# Altium footprint library Footprint.PcbLib: 1 footprints
Each footprint in its own frame and in the unit in brackets; x right, y up, seen from the top. Pads: shape width x height; smd on the part's side, far side on the other; paste and mask are expansions set on the pad; w line width, h text height; cw(c..) or ccw(c..) is an arc to the next point about the centre after c.
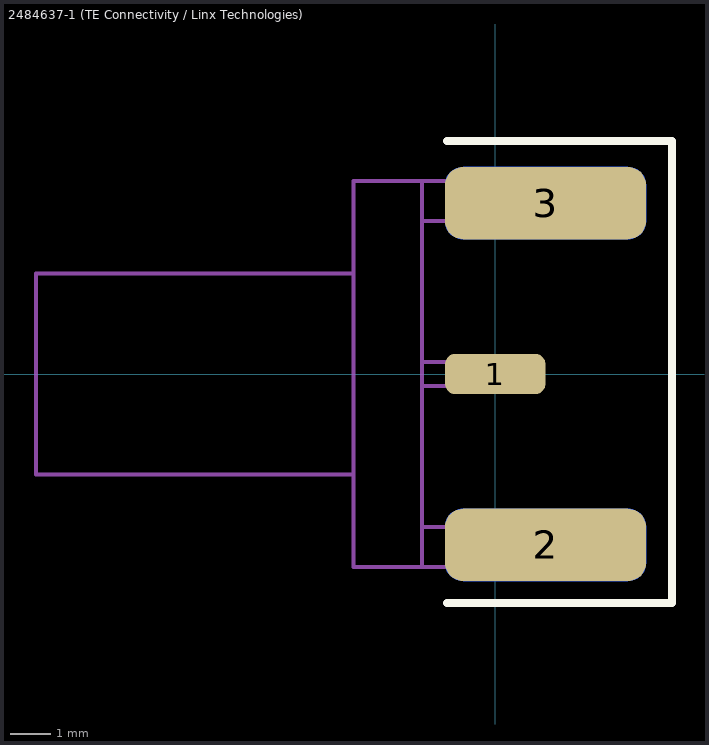
[diagram p0: the footprint, top view; thin cyan lines are the x and y axes]

## 2484637-1 (TE Connectivity / Linx Technologies) [mm] "SMA Connector, 5-Leads, Body 14.28x9.53mm"
height 4.08
pads (5):
  rrect50% 2.5x1 smd mask+0.05: 1(0,0)
  rrect50% 5x1.8 smd mask+0.05: 2(1.25,-4.25) 3(1.25,4.25)
  rrect50% 5x1.8 smd far side mask+0.05: 2(1.25,-4.25) 3(1.25,4.25)
Top Overlay:
  lines w0.2: -1.2,-5.7 4.4,-5.7 4.4,5.8 -1.2,5.8
Mechanical 3:
  lines w0.1: -3.527,-2.5 -11.427,-2.5 -11.427,2.5 -3.527,2.5 ; -1.827,-3.8 2.873,-3.8 2.873,-4.8 -1.827,-4.8 ; -1.827,-0.3 0.073,-0.3 0.073,0.3 -1.827,0.3 ; -1.827,3.8 2.873,3.8 2.873,4.8 -1.827,4.8 ; -1.827,-4.8 -3.527,-4.8 -3.527,4.8 -1.827,4.8 ; -1.827,-4.8 -1.827,4.8
  text ".Designator" at -11.176,5.207 h1.52
3D body "2484637-1.step": height 3.96, standoff -3.96, extent -11.435,-4.765 2.845,4.765